# Altium integrated library National Semiconductor Communication.IntLib: 2 symbols
Pins are listed as number, name and electrical type; pins without a type are passive.

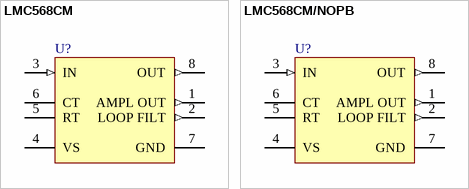
[diagram p0: symbols LMC568CM to LMC568CM/NOPB]

## LMC568CM
designator U?
Low Power Phase-Locked Loop, 8-pin Narrow SOIC; PartNumber: LMC568CM; Manufacturer: National Semiconductor; PackageTopMarking: NSZXTT*LMC*568CM; PowerWise: N; CompType: Analog IC; High-Reliability: Y; DatasheetVersion: 1/05/1999; PackageVersion: revM, May-2009; PackageReference: M08A; PackageDescription: SOIC Narrow, 4.9 x 3.9 x 1.45mm, 8 Lead, 1.27mm Pitch; RoHS: N; PinCount: 8; Code_JEDEC: MS-012-AA; Code_IPC: SOIC127P600-8; ComponentLink1Description: Manufacturer URL; ComponentLink1URL: http://www.national.com/; ComponentLink2Description: LMC568 Datasheet; ComponentLink2URL: http://www.national.com/ds/LM/LMC568.pdf; ComponentLink3Description: LMC568 Web Page; ComponentLink3URL: http://www.national.com/pf/LM/LMC568.html; ComponentLink4Description: M08A Package Page; ComponentLink4URL: http://www.national.com/packaging/folders/m08a.html
footprint M08A_N (SOIC, 8-Leads, Body 4.9x3.9mm, Pitch 1.27mm, IPC Medium Density)
footprint M08A_L (SOIC, 8-Leads, Body 4.9x3.9mm, Pitch 1.27mm, IPC High Density)
footprint M08A_M (SOIC, 8-Leads, Body 4.9x3.9mm, Pitch 1.27mm, IPC Low Density)
pins: 1 AMPL OUT (out), 2 LOOP FILT (out), 3 IN (in), 4 VS (power), 5 RT, 6 CT, 7 GND (power), 8 OUT (out)

## LMC568CM/NOPB
designator U?
Low Power Phase-Locked Loop, 8-pin Narrow SOIC, Pb-Free; PartNumber: LMC568CM/NOPB; Manufacturer: National Semiconductor; PackageTopMarking: NSZXTT*LMC*568CM; PowerWise: N; CompType: Analog IC; High-Reliability: Y; DatasheetVersion: 1/05/1999; PackageVersion: revM, May-2009; PackageReference: M08A; PackageDescription: SOIC Narrow, 4.9 x 3.9 x 1.45mm, 8 Lead, 1.27mm Pitch; RoHS: Y; PinCount: 8; Code_JEDEC: MS-012-AA; Code_IPC: SOIC127P600-8; ComponentLink1Description: Manufacturer URL; ComponentLink1URL: http://www.national.com/; ComponentLink2Description: LMC568 Datasheet; ComponentLink2URL: http://www.national.com/ds/LM/LMC568.pdf; ComponentLink3Description: LMC568 Web Page; ComponentLink3URL: http://www.national.com/pf/LM/LMC568.html; ComponentLink4Description: M08A Package Page; ComponentLink4URL: http://www.national.com/packaging/folders/m08a.html
footprint M08A_N (SOIC, 8-Leads, Body 4.9x3.9mm, Pitch 1.27mm, IPC Medium Density)
footprint M08A_L (SOIC, 8-Leads, Body 4.9x3.9mm, Pitch 1.27mm, IPC High Density)
footprint M08A_M (SOIC, 8-Leads, Body 4.9x3.9mm, Pitch 1.27mm, IPC Low Density)
pins: 1 AMPL OUT (out), 2 LOOP FILT (out), 3 IN (in), 4 VS (power), 5 RT, 6 CT, 7 GND (power), 8 OUT (out)